# EAGLE library part STM32F41X-100P (library Pygmy)
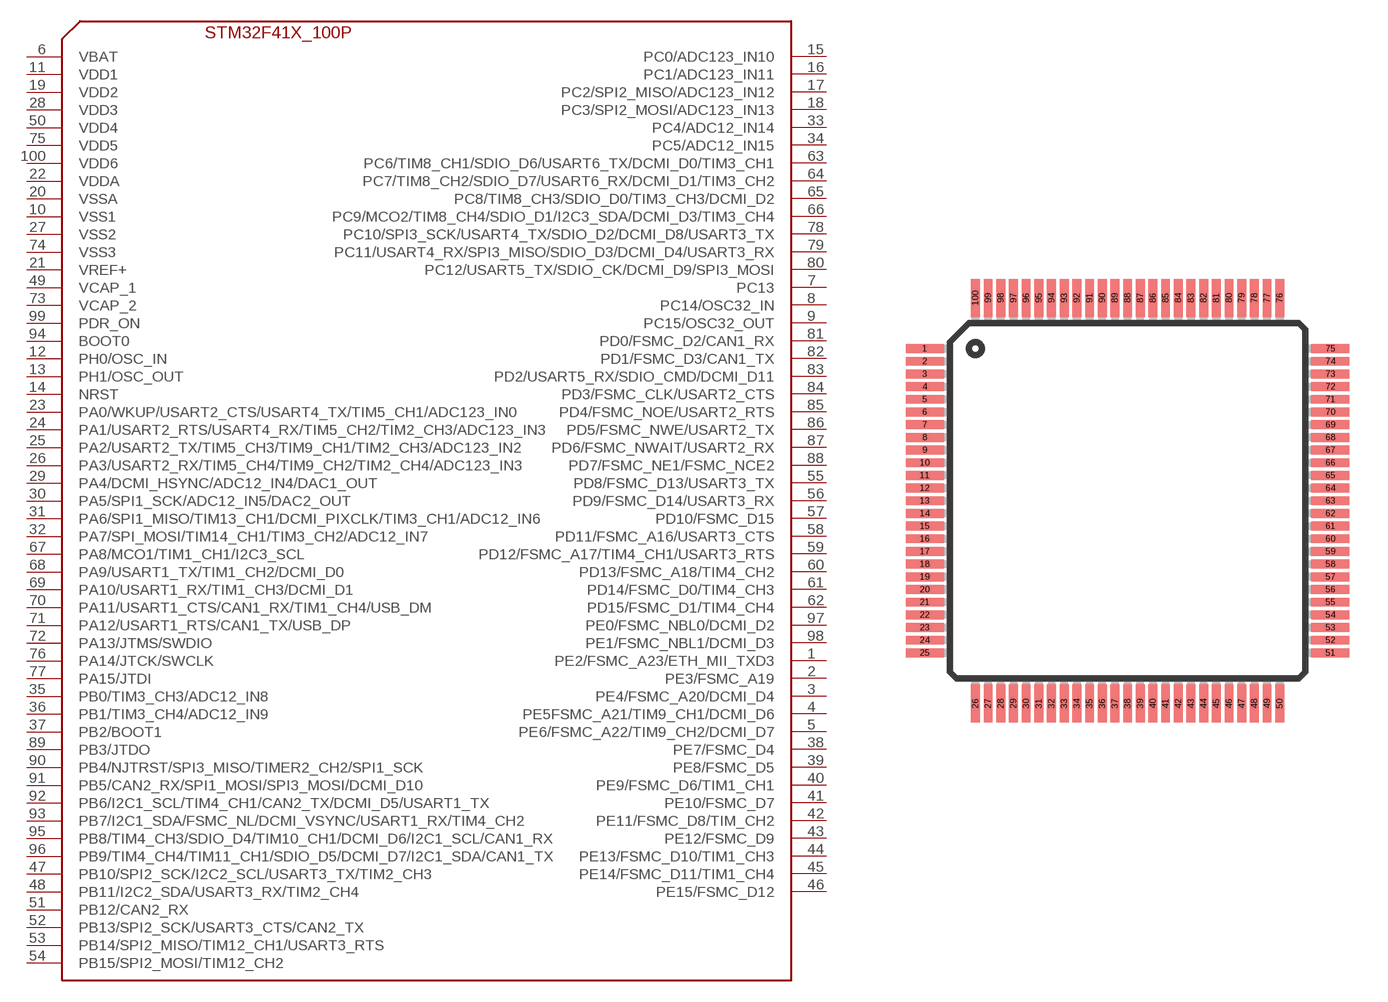
[diagram p56: symbol with the pads of TQFP100; footprint TQFP100]

Designator prefix -

## STM32F41X-100P  [TQFP100]
1  PE2/FSMC_A23/ETH_MII_TXD3
2  PE3/FSMC_A19
3  PE4/FSMC_A20/DCMI_D4
4  PE5FSMC_A21/TIM9_CH1/DCMI_D6
5  PE6/FSMC_A22/TIM9_CH2/DCMI_D7
6  VBAT
7  PC13
8  PC14/OSC32_IN
9  PC15/OSC32_OUT
10  VSS1
11  VDD1
12  PH0/OSC_IN
13  PH1/OSC_OUT
14  NRST
15  PC0/ADC123_IN10
16  PC1/ADC123_IN11
17  PC2/SPI2_MISO/ADC123_IN12
18  PC3/SPI2_MOSI/ADC123_IN13
19  VDD2
20  VSSA
21  VREF+
22  VDDA
23  PA0/WKUP/USART2_CTS/USART4_TX/TIM5_CH1/ADC123_IN0
24  PA1/USART2_RTS/USART4_RX/TIM5_CH2/TIM2_CH3/ADC123_IN3
25  PA2/USART2_TX/TIM5_CH3/TIM9_CH1/TIM2_CH3/ADC123_IN2
26  PA3/USART2_RX/TIM5_CH4/TIM9_CH2/TIM2_CH4/ADC123_IN3
27  VSS2
28  VDD3
29  PA4/DCMI_HSYNC/ADC12_IN4/DAC1_OUT
30  PA5/SPI1_SCK/ADC12_IN5/DAC2_OUT
31  PA6/SPI1_MISO/TIM13_CH1/DCMI_PIXCLK/TIM3_CH1/ADC12_IN6
32  PA7/SPI_MOSI/TIM14_CH1/TIM3_CH2/ADC12_IN7
33  PC4/ADC12_IN14
34  PC5/ADC12_IN15
35  PB0/TIM3_CH3/ADC12_IN8
36  PB1/TIM3_CH4/ADC12_IN9
37  PB2/BOOT1
38  PE7/FSMC_D4
39  PE8/FSMC_D5
40  PE9/FSMC_D6/TIM1_CH1
41  PE10/FSMC_D7
42  PE11/FSMC_D8/TIM_CH2
43  PE12/FSMC_D9
44  PE13/FSMC_D10/TIM1_CH3
45  PE14/FSMC_D11/TIM1_CH4
46  PE15/FSMC_D12
47  PB10/SPI2_SCK/I2C2_SCL/USART3_TX/TIM2_CH3
48  PB11/I2C2_SDA/USART3_RX/TIM2_CH4
49  VCAP_1
50  VDD4
51  PB12/CAN2_RX
52  PB13/SPI2_SCK/USART3_CTS/CAN2_TX
53  PB14/SPI2_MISO/TIM12_CH1/USART3_RTS
54  PB15/SPI2_MOSI/TIM12_CH2
55  PD8/FSMC_D13/USART3_TX
56  PD9/FSMC_D14/USART3_RX
57  PD10/FSMC_D15
58  PD11/FSMC_A16/USART3_CTS
59  PD12/FSMC_A17/TIM4_CH1/USART3_RTS
60  PD13/FSMC_A18/TIM4_CH2
61  PD14/FSMC_D0/TIM4_CH3
62  PD15/FSMC_D1/TIM4_CH4
63  PC6/TIM8_CH1/SDIO_D6/USART6_TX/DCMI_D0/TIM3_CH1
64  PC7/TIM8_CH2/SDIO_D7/USART6_RX/DCMI_D1/TIM3_CH2
65  PC8/TIM8_CH3/SDIO_D0/TIM3_CH3/DCMI_D2
66  PC9/MCO2/TIM8_CH4/SDIO_D1/I2C3_SDA/DCMI_D3/TIM3_CH4
67  PA8/MCO1/TIM1_CH1/I2C3_SCL
68  PA9/USART1_TX/TIM1_CH2/DCMI_D0
69  PA10/USART1_RX/TIM1_CH3/DCMI_D1
70  PA11/USART1_CTS/CAN1_RX/TIM1_CH4/USB_DM
71  PA12/USART1_RTS/CAN1_TX/USB_DP
72  PA13/JTMS/SWDIO
73  VCAP_2
74  VSS3
75  VDD5
76  PA14/JTCK/SWCLK
77  PA15/JTDI
78  PC10/SPI3_SCK/USART4_TX/SDIO_D2/DCMI_D8/USART3_TX
79  PC11/USART4_RX/SPI3_MISO/SDIO_D3/DCMI_D4/USART3_RX
80  PC12/USART5_TX/SDIO_CK/DCMI_D9/SPI3_MOSI
81  PD0/FSMC_D2/CAN1_RX
82  PD1/FSMC_D3/CAN1_TX
83  PD2/USART5_RX/SDIO_CMD/DCMI_D11
84  PD3/FSMC_CLK/USART2_CTS
85  PD4/FSMC_NOE/USART2_RTS
86  PD5/FSMC_NWE/USART2_TX
87  PD6/FSMC_NWAIT/USART2_RX
88  PD7/FSMC_NE1/FSMC_NCE2
89  PB3/JTDO
90  PB4/NJTRST/SPI3_MISO/TIMER2_CH2/SPI1_SCK
91  PB5/CAN2_RX/SPI1_MOSI/SPI3_MOSI/DCMI_D10
92  PB6/I2C1_SCL/TIM4_CH1/CAN2_TX/DCMI_D5/USART1_TX
93  PB7/I2C1_SDA/FSMC_NL/DCMI_VSYNC/USART1_RX/TIM4_CH2
94  BOOT0
95  PB8/TIM4_CH3/SDIO_D4/TIM10_CH1/DCMI_D6/I2C1_SCL/CAN1_RX
96  PB9/TIM4_CH4/TIM11_CH1/SDIO_D5/DCMI_D7/I2C1_SDA/CAN1_TX
97  PE0/FSMC_NBL0/DCMI_D2
98  PE1/FSMC_NBL1/DCMI_D3
99  PDR_ON
100  VDD6

## Footprint TQFP100 (pad centres in mm)
smd 1.5 x 0.35: 1 -8,6; 2 -8,5.5; 3 -8,5; 4 -8,4.5; 5 -8,4; 6 -8,3.5; 7 -8,3; 8 -8,2.5; 9 -8,2; 10 -8,1.5; 11 -8,1; 12 -8,0.5; 13 -8,0; 14 -8,-0.5; 15 -8,-1; 16 -8,-1.5; 17 -8,-2; 18 -8,-2.5; 19 -8,-3; 20 -8,-3.5; 21 -8,-4; 22 -8,-4.5; 23 -8,-5; 24 -8,-5.5; 25 -8,-6; 51 8,-6; 52 8,-5.5; 53 8,-5; 54 8,-4.5; 55 8,-4; 56 8,-3.5; 57 8,-3; 58 8,-2.5; 59 8,-2; 60 8,-1.5; 61 8,-1; 62 8,-0.5; 63 8,0; 64 8,0.5; 65 8,1; 66 8,1.5; 67 8,2; 68 8,2.5; 69 8,3; 70 8,3.5; 71 8,4; 72 8,4.5; 73 8,5; 74 8,5.5; 75 8,6
smd 0.35 x 1.5: 26 -6,-8; 27 -5.5,-8; 28 -5,-8; 29 -4.5,-8; 30 -4,-8; 31 -3.5,-8; 32 -3,-8; 33 -2.5,-8; 34 -2,-8; 35 -1.5,-8; 36 -1,-8; 37 -0.5,-8; 38 0,-8; 39 0.5,-8; 40 1,-8; 41 1.5,-8; 42 2,-8; 43 2.5,-8; 44 3,-8; 45 3.5,-8; 46 4,-8; 47 4.5,-8; 48 5,-8; 49 5.5,-8; 50 6,-8; 76 6,8; 77 5.5,8; 78 5,8; 79 4.5,8; 80 4,8; 81 3.5,8; 82 3,8; 83 2.5,8; 84 2,8; 85 1.5,8; 86 1,8; 87 0.5,8; 88 0,8; 89 -0.5,8; 90 -1,8; 91 -1.5,8; 92 -2,8; 93 -2.5,8; 94 -3,8; 95 -3.5,8; 96 -4,8; 97 -4.5,8; 98 -5,8; 99 -5.5,8; 100 -6,8